# EAGLE library part UCC28722 (library smartplug)
Constant-Voltage, Constant-Current Controller With Primary-Side Regulation, BJT Drive
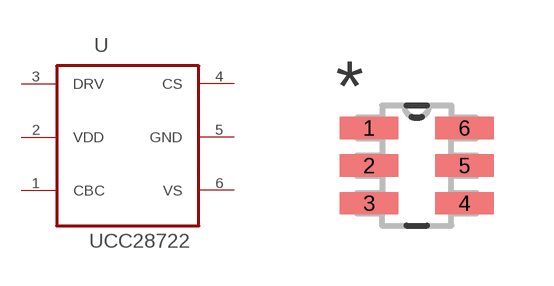
[diagram p3: symbol with the pads of SOT95P290X145-6N; footprint SOT95P290X145-6N]

Designator prefix U

## UCC28722 (MPN: UCC28722; OC_FARNELL: 2400944; PACKAGE: SOT23-6; SUPPLIER: Ti)  [SOT95P290X145-6N]
1  CBC  pas
2  VDD  pwr
3  DRV  out
4  CS  in
5  GND  pas
6  VS  in

## Footprint SOT95P290X145-6N (pad centres in mm)
smd 1.473 x 0.559: 1 -1.194,0.94; 2 -1.194,0; 3 -1.194,-0.94; 4 1.194,-0.94; 5 1.194,0; 6 1.194,0.94